# Altium footprint library Pin Gerd.PcbLib: 9 footprints
Each footprint in its own frame and in the unit in brackets; x right, y up, seen from the top. Pads: shape width x height; smd on the part's side, far side on the other; paste and mask are expansions set on the pad; w line width, h text height; cw(c..) or ccw(c..) is an arc to the next point about the centre after c.
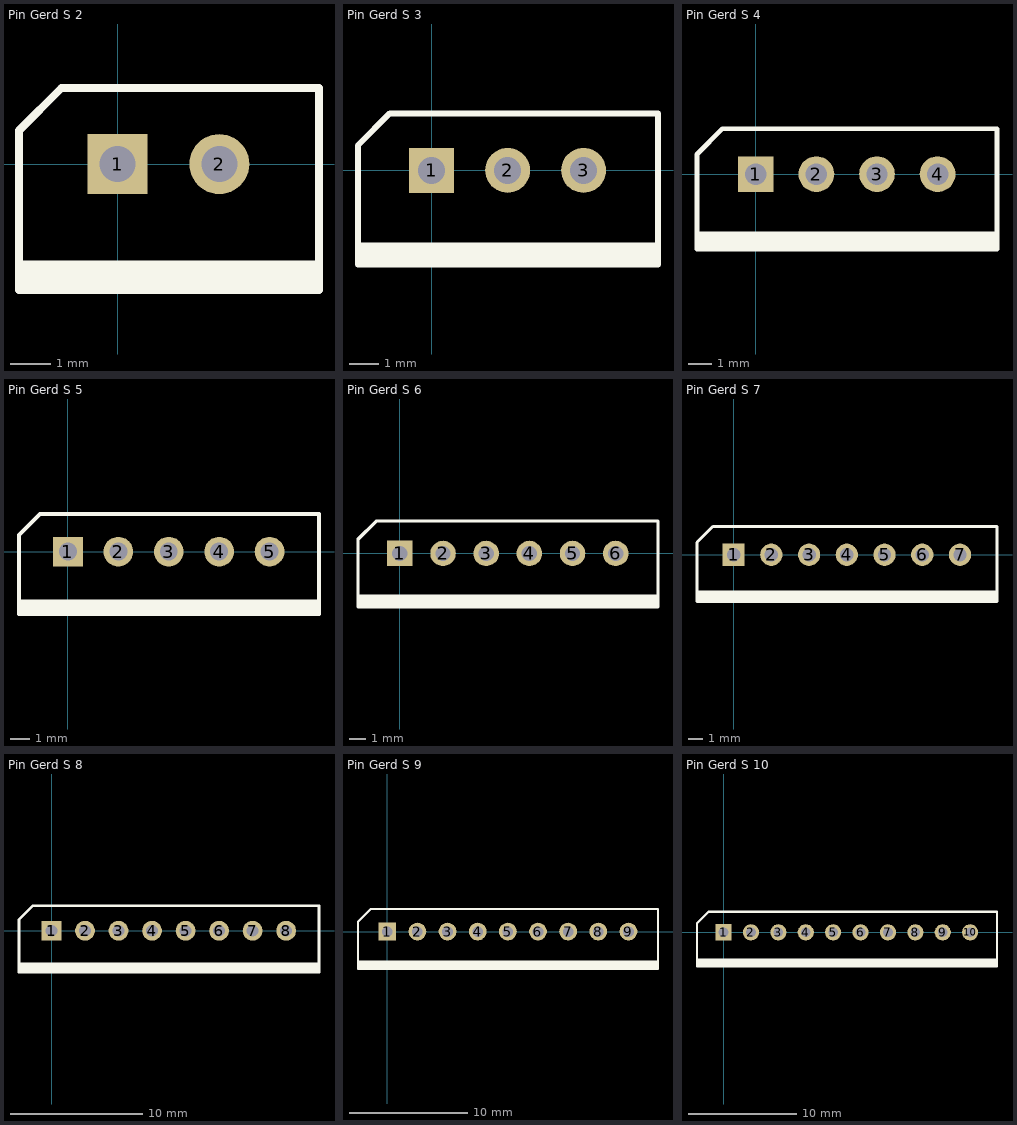
[diagram p0: the footprints below, top view; thin cyan lines are the x and y axes]

## Pin Gerd S 2 [mm] "Stright"
height 8
pads (2):
  rect 1.5x1.5 hole 0.9: 1(0,0)
  round 1.5 hole 0.9: 2(2.54,0)
Top Overlay:
  rectangle: -2.413,-3.15 5.029,-2.413
  lines w0.2: -2.464,-3.15 -2.464,-2.769 -2.464,-0.635 -2.464,0.838 -1.397,1.905 5.029,1.905 5.029,-0.635 5.029,-2.769 5.029,-3.15 4.337,-3.15 -1.822,-3.15 -2.413,-3.15

## Pin Gerd S 3 [mm] "Stright"
height 8
pads (3):
  rect 1.5x1.5 hole 0.9: 1(0,0)
  round 1.5 hole 0.9: 2(2.54,0) 3(5.08,0)
Top Overlay:
  rectangle: -2.413,-3.15 7.569,-2.413
  lines w0.2: -2.464,-3.15 -2.464,-2.769 -2.464,-0.635 -2.464,0.838 -1.397,1.905 7.569,1.905 7.569,-3.15 4.337,-3.15 -1.822,-3.15 -2.413,-3.15

## Pin Gerd S 4 [mm] "Stright"
height 8
pads (4):
  rect 1.5x1.5 hole 0.9: 1(0,0)
  round 1.5 hole 0.9: 2(2.54,0) 3(5.08,0) 4(7.62,0)
Top Overlay:
  rectangle: -2.413,-3.15 10.109,-2.413
  lines w0.2: -2.464,-3.15 -2.464,-2.769 -2.464,-0.635 -2.464,0.838 -1.397,1.905 10.109,1.905 10.109,-3.15 4.337,-3.15 -1.822,-3.15 -2.413,-3.15

## Pin Gerd S 5 [mm] "Stright"
height 8
pads (5):
  rect 1.5x1.5 hole 0.9: 1(0,0)
  round 1.5 hole 0.9: 2(2.54,0) 3(5.08,0) 4(7.62,0) 5(10.16,0)
Top Overlay:
  rectangle: -2.413,-3.15 12.624,-2.413
  lines w0.2: -2.464,-3.15 -2.464,-2.769 -2.464,-0.635 -2.464,0.838 -1.397,1.905 12.649,1.905 12.649,-3.15 4.337,-3.15 -1.822,-3.15 -2.413,-3.15

## Pin Gerd S 6 [mm] "Stright"
height 8
pads (6):
  rect 1.5x1.5 hole 0.9: 1(0,0)
  round 1.5 hole 0.9: 2(2.54,0) 3(5.08,0) 4(7.62,0) 5(10.16,0) 6(12.7,0)
Top Overlay:
  rectangle: -2.413,-3.15 15.189,-2.413
  lines w0.2: -2.464,-3.15 -2.464,-2.769 -2.464,-0.635 -2.464,0.838 -1.397,1.905 15.189,1.905 15.189,-3.15 4.337,-3.15 -1.822,-3.15 -2.413,-3.15

## Pin Gerd S 7 [mm] "Stright"
height 8
pads (7):
  rect 1.5x1.5 hole 0.9: 1(0,0)
  round 1.5 hole 0.9: 2(2.54,0) 3(5.08,0) 4(7.62,0) 5(10.16,0) 6(12.7,0) 7(15.24,0)
Top Overlay:
  rectangle: -2.413,-3.15 17.729,-2.413
  lines w0.2: -2.464,-3.15 -2.464,-2.769 -2.464,-0.635 -2.464,0.838 -1.397,1.905 17.729,1.905 17.729,-3.15 4.337,-3.15 -1.822,-3.15 -2.413,-3.15

## Pin Gerd S 8 [mm] "Stright"
height 8
pads (8):
  rect 1.5x1.5 hole 0.9: 1(0,0)
  round 1.5 hole 0.9: 2(2.54,0) 3(5.08,0) 4(7.62,0) 5(10.16,0) 6(12.7,0) 7(15.24,0) 8(17.78,0)
Top Overlay:
  rectangle: -2.413,-3.15 20.269,-2.413
  lines w0.2: -2.464,-3.15 -2.464,-2.769 -2.464,-0.635 -2.464,0.838 -1.397,1.905 20.269,1.905 20.269,-3.15 4.337,-3.15 -1.822,-3.15 -2.413,-3.15

## Pin Gerd S 9 [mm] "Stright"
height 8
pads (9):
  rect 1.5x1.5 hole 0.9: 1(0,0)
  round 1.5 hole 0.9: 2(2.54,0) 3(5.08,0) 4(7.62,0) 5(10.16,0) 6(12.7,0) 7(15.24,0) 8(17.78,0) 9(20.32,0)
Top Overlay:
  rectangle: -2.413,-3.15 22.809,-2.413
  lines w0.2: -2.464,-3.15 -2.464,-2.769 -2.464,-0.635 -2.464,0.838 -1.397,1.905 22.809,1.905 22.809,-3.15 4.337,-3.15 -1.822,-3.15 -2.413,-3.15

## Pin Gerd S 10 [mm] "Stright"
height 8
pads (10):
  rect 1.5x1.5 hole 0.9: 1(0,0)
  round 1.5 hole 0.9: 2(2.54,0) 3(5.08,0) 4(7.62,0) 5(10.16,0) 6(12.7,0) 7(15.24,0) 8(17.78,0) 9(20.32,0) 10(22.86,0)
Top Overlay:
  rectangle: -2.413,-3.15 25.349,-2.413
  lines w0.2: -2.464,-3.15 -2.464,-2.769 -2.464,-0.635 -2.464,0.838 -1.397,1.905 25.349,1.905 25.349,-3.15 4.337,-3.15 -1.822,-3.15 -2.413,-3.15